# Altium schematic symbol library C0805.Schlib: 1 symbol
Pins are listed as number, name and electrical type; pins without a type are passive.

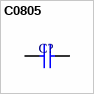
[diagram p0: symbol C0805]

## C0805
designator C?  (value not drawn)
0805 Ceramic Chip Capacitor - Standard
pins: 1, 2